# EAGLE library part MCP4651 (library William)
MCP4651 Dual Digital I2C Potentiometer based off of recommended Microchip TSSOP-14 footprint. Untested.
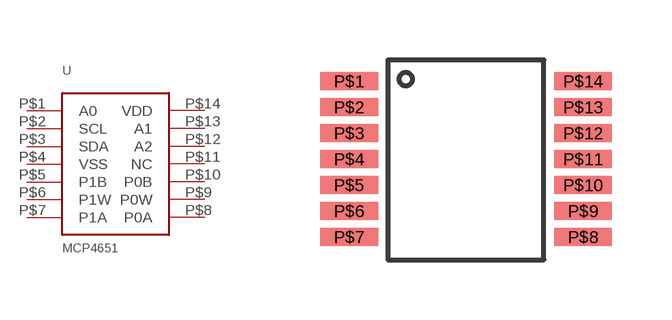
[diagram p4: symbol with the pads of MCP-TSSOP-14; footprint MCP-TSSOP-14]

Designator prefix -

## MCP4651  [MCP-TSSOP-14]
P$1  A0
P$2  SCL
P$3  SDA
P$4  VSS
P$5  P1B
P$6  P1W
P$7  P1A
P$8  P0A
P$9  P0W
P$10  P0B
P$11  NC
P$12  A2
P$13  A1
P$14  VDD

## Footprint MCP-TSSOP-14 (pad centres in mm)
smd 1.45 x 0.45: P$1 0,0; P$2 0,-0.65; P$3 0,-1.3; P$4 0,-1.95; P$5 0,-2.6; P$6 0,-3.25; P$7 0,-3.9; P$8 5.85,-3.9; P$9 5.85,-3.25; P$10 5.85,-2.6; P$11 5.85,-1.95; P$12 5.85,-1.3; P$13 5.85,-0.65; P$14 5.85,0